# Altium schematic symbol library HW.SchLib: 328 symbols (part 9 of 10)
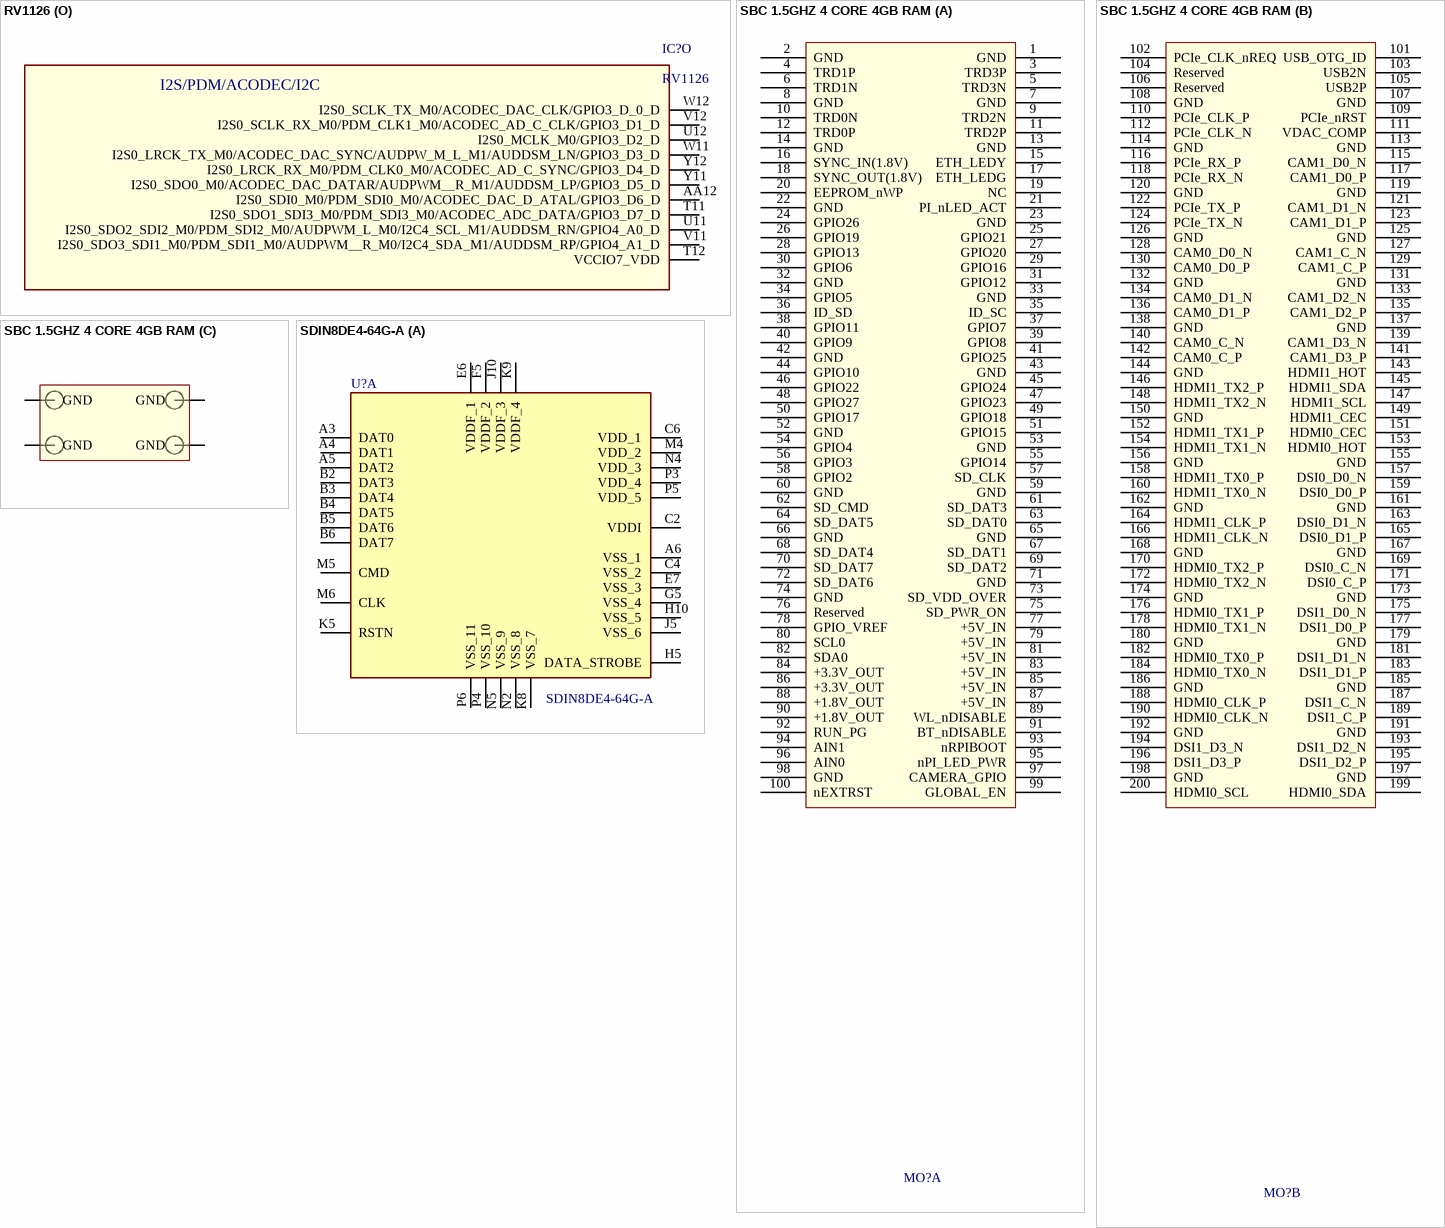
[diagram p31: symbols RV1126 to SDIN8DE4-64G-A]

## RV1126
designator IC?
Integrated Circuit; Manufacturer_Name: Rockchip; Datasheet Link: http://www.armdesigner.com/download/Rockchip%20RV1126%20Datasheet%20V1.2%2020200522.pdf; Height: 0.9mm; Manufacturer_Part_Number: RV1126
footprint BGA409C65P21X21_1400X1400X90
part A pins: H9 LOGIC_VDD_1, H11 NPU_VDD_1, H12 NPU_VDD_2, H13 LOGIC_VDD_2, H14 VCCIO_VDD_1V8, J9 LOGIC_VDD_3, J10 NPU_VDD_3, J11 NPU_VDD_4, J13 LOGIC_VDD_4, K10 NPU_VDD_5, K11 NPU_VDD_6, L9 VEPU_VDD_1, L10 LOGIC_VDD_5, M9 VEPU_VDD_2, M11 LOGIC_VDD_6, N8 VEPU_VDD_3, N9 VEPU_VDD_4, N12 ARM_VDD_1, P12 ARM_VDD_2, P13 ARM_VDD_3
part B pins: A1 VSS_1, A21 AVSS_1, AA1 VSS_95, AA10 VSS_96, AA21 VSS_97, B12 VSS_2, C3 VSS_3, C5 VSS_4, C7 VSS_5, C10 VSS_6, C12 VSS_7, D9 VSS_8, D12 VSS_9, D18 AVSS_2, E4 VSS_10, E6 VSS_11, E8 VSS_12, E9 VSS_13, E10 VSS_14, E11 VSS_15, E12 VSS_16, F3 VSS_17, F5 VSS_18, F7 VSS_19, F8 VSS_20, F9 VSS_21, F10 VSS_22, F11 VSS_23, F12 VSS_24, F13 VSS_25, F14 AVSS_3, F15 AVSS_4, G2 VSS_26, G5 VSS_27, G6 VSS_28, G10 VSS_29, G11 VSS_30, G12 VSS_31, G13 VSS_32, G16 AVSS_5, G17 AVSS_6, H4 VSS_33, H5 VSS_34, H6 VSS_35, H7 VSS_36, H10 VSS_37, H15 VSS_38, J5 VSS_39, J6 VSS_40, J12 VSS_41, J14 VSS_42, J16 VSS_43, K5 VSS_44, K6 VSS_45, K8 VSS_46, K9 VSS_47, K12 VSS_48, K13 VSS_49, K14 VSS_50, L2 VSS_51, L5 VSS_52, L6 VSS_53, L11 VSS_54, L12 VSS_55, L13 VSS_56, L14 VSS_57, L16 VSS_58, M3 VSS_59, M5 VSS_60, M7 VSS_61, M8 VSS_62, M10 VSS_63, M12 VSS_64, M13 VSS_65, M14 VSS_66, M16 VSS_67, N5 VSS_68, N6 VSS_69, N7 VSS_70, N10 VSS_71, N11 VSS_72, N13 VSS_73, N14 VSS_74, N16 VSS_75, P5 VSS_76, P7 VSS_77, P8 VSS_78, P9 VSS_79, P14 VSS_80, P16 VSS_81, R1 VSS_82, R5 VSS_83, R12 VSS_84, R13 VSS_85, R14 VSS_86, T6 VSS_87, T9 VSS_88, T10 VSS_89, T14 VSS_90, T17 VSS_91, V17 VSS_92, W9 VSS_93, W14 VSS_94
part C pins: AA2 SPI0_CS0N_M0/GPIO0_A5_U, AA3 CLKI_CLKO_32K/GPIO0_A2_Z, AA4 PMU_DEBUG/UART1_CTSN_M0/PWM3_IR_M0/GPIO0_C1_D, AA6 I2C2_SCL/PWM4_M0/GPIO0_C2_D, AA7 I2C0_SCL/GPIO0_B4_U, AA9 XIN24M, P10 PMUIO_VDD_0V8, P11 PLL_AVDD_0V8, R8 PMUIO1_VDD, R9 PMUIO0_VDD, R10 PMUIO_VDD_1V8, R11 PLL_AVDD_1V8, T8 TVSS, U7 SDMMC0_DET/GPIO0_A3_U, U9 SDMMC0_PWR_/UART1_RTSN_M0/PWM2_M0/GPIO0_C0_D, V6 SPI0_MOSI_M0/GPIO0_A6_D, V7 SPI0_CS1N_M0/GPIO0_A4_U, V9 UART1_RX_M0/PWM1_M0/GPIO0_B7_D, W5 SPI0_MISO_M0/GPIO0_A7_D, W6 CLK_REF/GPIO0_A0_D, W7 NPOR_U, W8 UART1_TX_M0/PWM0_M0/GPIO0_B6_D, W10 PMIC_IN/PWM7_IR_M0/GPIO0_B1_D, Y4 SPI0_CLK_M0/GPIO0_B0_D, Y5 TSADC_SHUT_M0/TSADC_SHUTORG/GPIO0_A1_Z, Y6 I2C2_SDA/PWM5_M0/GPIO0_C3_D, Y7 I2C0_SDA/GPIO0_B5_U, Y8 FLASH_VOL_SEL/GPIO0_B3_D, Y9 XOUT24M, Y10 PMIC_SLEEP/TSADC_SHUT_M1/PWM6_M0/GPIO_0_B2_D
part D pins: A2 DDR_DQ24, A3 DDR_DQ25, A4 DDR_ACTN, A5 DDR_ODT0, A6 DDR_BA1, A7 DDR_A5, A8 DDR_A8, A9 DDR_A4, A10 DDR_A10, A11 DDR4_A14_Wen , A12 DDR_A13, B1 DDR_DQ30, B2 DDR_DQ31, B3 DDR_DM3, B4 DDR_CS0N, B5 DDR4_A15_CASn , B6 DDR_A3, B7 DDR_A1, B8 DDR_A7, B9 DDR_A9, B10 DDR4_A16_RASn, B11 DDR_A2, C1 DDR_DQ14, C2 DDR_DQ15, C4 DDR_RESETN, C6 DDR_CKE, C8 DDR_A6, C9 DDR_A0, C11 DDR_A11, D1 DDR_DQ9, D2 DDR_DQ8, D3 DDR_DQS3P, D4 DDR_CLKP, D5 DDR_CLKN, D6 DDR_BG0, D7 DDR_A12, D8 DDR_CS1N, D10 DDR_ODT1, D11 DDR_BG1, E1 DDR_DQ13, E2 DDR_DM1, E3 DDR_DQS3N, E5 DDR_RZQ, E7 DDR_BA0, F1 DDR_DQS1N, F2 DDR_DQS1P, F4 DDR_DQ27, F6 DDR_AVSS, G1 DDR_DQ12, G3 DDR_DQ29, G4 DDR_DQ26, G7 DDR_VDD_1, G8 DDR_VDD_2, G9 DDR_VDD_3, H1 DDR_DQ11, H2 DDR_DQ10, H3 DDR_DQ28, H8 DDR_VDD_4, J1 DDR_DQ18, J2 DDR_DQ19, J3 DDR_DQ4, J4 DDR_DQ1, J7 DDR_VDD_5, K1 DDR_DQ16, K2 DDR_DQ17, K3 DDR_DQ5, K4 DDR_DQ0, K7 DDR_VDD_6, L1 DDR_DQ21, L3 DDR_DQS0N, L4 DDR_DQS0P, L7 DDR_VDD_7, M1 DDR_DQ22, M2 DDR_DM2, M4 DDR_DQ6, M6 DDR_VREF, N1 DDR_DQS2N, N2 DDR_DQS2P, N3 DDR_DM0, N4 DDR_DQ3, P1 DDR_DQ23, P2 DDR_DQ20, P3 DDR_DQ7, P4 DDR_DQ2
part E pins: P6 VCCIO1_VDD, R2 FLASH_RDYN/FSPI_D1/I2S1_SCLK_M0/GPIO1_A_1_U, R3 FLASH_WPN/EMMC_RSTN/FSPI_CLK/GPIO1_A3_D, R4 FLASH_RDN/FSPI_D3/I2S1_SDI_M0/GPIO1_A2_U, T1 FLASH_CLE/EMMC_CLKO/GPIO0_D7_D, T2 FLASH_ALE/FSPI_D0/I2S1_LRCK_M0/GPIO1_A0__D, T3 FSPI_D2/I2S1_SDO_M0/GPIO0_D6_D, T4 FLASH_WRN/EMMC_CMD/GPIO0_D5_U, U2 FLASH_CS0N/FSPI_CS0N/I2S1_MCLK_M0/GPIO0_D4_U, U3 FLASH_D7/EMMC_D7/GPIO0_D3_U, U4 FLASH_D6/EMMC_D6/GPIO0_D2_U, V1 FLASH_D5/EMMC_D5/FSPI_CS1N/GPIO0_D1_U, V2 FLASH_D4/EMMC_D4/GPIO0_D0_U, V3 FLASH_D3/EMMC_D3/GPIO0_C7_U, V4 FLASH_D2/EMMC_D2/GPIO0_C6_U, W1 FLASH_D1/EMMC_D1/GPIO0_C5_U, W2 FLASH_D0/EMMC_D0/GPIO0_C4_U
part F pins: AA13 SDMMC0_CLK/UART3_RTSN_M1/RISC-V_JTAG_TDO/GPIO1_B0_U, T13 VCCIO2_VDD, U13 SDMMC0_D3/UART3_TX_M1/A7_JTAG_TMS_M0/RISC-V_JTAG_TMS/GPIO1_A7_U, V13 SDMMC0_D2/UART3_RX_M1/A7_JTAG_TCK_M0/_RISC-V_JTAG_TCK/GPIO1_A6_U, W13 SDMMC0_D1/TEST_CLK0_OUT/UART2_TX_M0/RI_SC-V_JTAG_TRSTN/GPIO1_A5_U, Y13 SDMMC0_CMD/UART3_CTSN_M1/RISCV_JTAG_TDI/GPIO1_B1_U, Y14 SDMMC0_D0/TEST_CLK1_OUT/UART2_RX_M0/GPIO1_A4_U
part G pins: A13 SDIO_PWR/I2C5_SDA_M2/UART1_RX_M1/GPIO1_D1_D, A15 UART0_CTSN/GPIO1_C1_U, A16 SDIO_CMD/GPIO1_B3_U, B13 I2S2_MCLK_M0/SDIO_DET/SPI1_CS1N_M1/I2C5_SCL_M2/UART1_TX_M1/GPIO1_D0_D, B14 I2S2_SDO_M0/SPI1_MOSI_M1/FLASH_TRIG_OUT/GPIO1_C4_D, B15 UART0_RTSN/GPIO1_C0_U, B16 SDIO_D0/GPIO1_B4_U, C13 I2S2_LRCK_M0/SPI1_CS0N_M1/UART1_CTSN_M1/GPIO1_C7_D, C14 UART0_TX/GPIO1_C3_U, C15 SDIO_D3/GPIO1_B7_U, C16 SDIO_D1/GPIO1_B5_U, D13 I2S2_SCLK_M0/SPI1_CLK_M1/PRELIGHT_TRIG_OUT/UART1_RTSN_M1/_GPIO1_C6_D, D14 UART0_RX/GPIO1_C2_U, D15 SDIO_D2/GPIO1_B6_U, D16 SDIO_CLK/GPIO1_B2_D, E13 I2S2_SDI_M0/SPI1_MISO_M1/FLASH_TRIG_IN/GPIO1_C5_D, E14 VCCIO3_VDD
part H pins: R6 USB_AVDD_0V8, R7 USB_AVDD_1V8, T7 USB_AVDD_3V3, U5 HOST_EXTR, U6 OTG_EXTR, V5 OTG_VBUS1V8, W3 OTG_DP, W4 OTG_DM, Y1 HOST_DP, Y2 HOST_DM, Y3 OTG_ID
part I pins: A18 ADCIN3, B17 ADCIN5, B18 ADCIN2, C17 ADCIN4, D17 ADCIN1, E16 ADC_AVDD_1V8, E17 ADCIN0
part J pins: M15 VCCIO6_VDD, M17 CIF_D13_M0/RGMII_RXDV_M0/PDM_SDI0_M1/GPIO3_C1_D, M18 CIF_D14_M0/RGMII_RXER_M0/PDM_SDI1_M1/GPIO3_C2_D, M19 CIF_CLKIN_M0/CLK_OUT_ETHERNET_M0/UART3_CTSN_M0/GPIO3_C5_D, N17 CIF_D6_M0/RGMII_TXD3_M0/I2S0_LRCK_RX_M1/UART4_RTSN_M0/GPIO3_B2_D, N18 CIF_D9_M0/RGMII_TXEN_M0/I2S0_SDO3_SDI1_M1/SPI1_CS0N_M0/GPIO3_B5_D, N19 CIF_D12_M0/RGMII_CLK_M0/PDM_CLK0_M1/SPI1_CLK_M0/GPIO3_C0_D, N20 CIF_D15_M0/RGMII_MDIO_M0/PDM_CLK1_M1/GPIO3_C3_D, N21 CIF_VSYNC_M0/RGMII_MDC_M0/UART3_RTSN__M0/GPIO3_C4_D, P17 CIF_D2_M0/RGMII_COL_M0/I2S0_SDO0_M1/UART5_TX_M0/CAN_RXD_M1/PWM10_M0/GPIO3_A6_D, P19 CIF_CLKOUT_M0/RGMII_TXCLK_M0/UART3_TX_M0/GPIO3_C6_D, P20 CIF_HSYNC_M0/RGMII_RXCLK_M0/UART3_RX_M0/GPIO3_C7_D, R17 CIF_D0_M0/I2S0_SCLK_TX_M1/UART4_TX_M0/I2C3_SCL_M0/PWM8_M0/GPIO3_A4_D, R18 CIF_D3_M0/RGMII_RXD2_M0/I2S0_SDI0_M1/UART5_RX_M0/CAN_TXD_M1/PWM11_IR_M0/GPIO3_A7_D, R19 CIF_D7_M0/RGMII_TXD0_M0/I2S0_SDO1_SDI3_M1/UART4_CTSN_M0/GPIO3_B3_D, R20 CIF_D10_M0/RGMII_RXD0_M0/PDM_SDI2_M1/SPI1_MOSI_M0/GPIO3_B6_D, R21 CIF_D11_M0/RGMII_RXD1_M0/PDM_SDI3_M1/SPI1_MISO_M0/GPIO3_B7_D, T18 CIF_D1_M0/RGMII_CRS_M0/I2S0_LRCK_TX_M1/UART4_RX_M0/I2C3_SDA_M0/PWM9_M0/GPIO3_A5_D, T19 CIF_D4_M0/RGMII_RXD3_M0/I2S0_MCLK_M1/UART5_RTSN_M0/I2C5_SCL_M1/GPIO3_B0_D, T20 CIF_D5_M0/RGMII_TXD2_M0/I2S0_SCLK_RX_M1/UART5_CTSN_M0/I2C5_SDA_M1/GPIO3_B1_D, T21 CIF_D8_M0/RGMII_TXD1_M0/I2S0_SDO2_SDI2_M1/SPI1_CS1N_M0/GPIO3_B4_D
part K pins: AA15 MIPI_CSI_RX0_D3P/LVDS0_RX3P, AA16 MIPI_CSI_RX0_D3N/LVDS0_RX3N, AA18 MIPI_CSI_RX1_D2P/LVDS1_RX2P, AA19 MIPI_CSI_RX1_D1P/LVDS1_RX1P, AA20 MIPI_CSI_RX1_D0P/LVDS1_RX0P, R15 MIPI_CSI_RX1_AVDD_0V8, R16 MIPI_CSI_RX1_AVDD_1V8, T15 MIPI_CSI_RX0_AVDD_0V8, T16 MIPI_CSI_RX0_AVDD_1V8, U15 MIPI_CSI_RX0_CLKP/LVDS0_CLKP, U16 MIPI_CSI_RX0_D0N/LVDS0_RX0N, V15 MIPI_CSI_RX0_CLKN/LVDS0_CLKN, V16 MIPI_CSI_RX0_D0P/LVDS0_RX0P, V18 MIPI_CSI_RX1_CLKP/LVDS1_CLKP, W15 MIPI_CSI_RX0_D2P/LVDS0_RX2P, W16 MIPI_CSI_RX0_D1N/LVDS0_RX1N, W17 MIPI_CSI_RX1_D3N/LVDS1_RX3N, W18 MIPI_CSI_RX1_CLKN/LVDS1_CLKN, Y15 MIPI_CSI_RX0_D2N/LVDS0_RX2N, Y16 MIPI_CSI_RX0_D1P/LVDS0_RX1P, Y17 MIPI_CSI_RX1_D3P/LVDS1_RX3P, Y18 MIPI_CSI_RX1_D2N/LVDS1_RX2N, Y19 MIPI_CSI_RX1_D1N/LVDS1_RX1N, Y20 MIPI_CSI_RX1_D0N/LVDS1_RX0N
part L pins: P15 VCCIO4_VDD, U18 SPI0_MISO_M1/I2S1_LRCK_M1/I2C3_SDA_M2/GPIO1_D7_D, U19 SPI0_CS0N_M1/I2S1_SDI_M1/UART5_TX_M2/GPIO2_A0_D, U20 SPI0_CLK_M1/I2S1_SDO_M1/UART5_RX_M2/GPIO2_A1_D, V19 SPI0_MOSI_M1/I2S1_SCLK_M1/I2C3_SCL_M2/GPIO1_D6_D, V20 SPI0_CS1N_M1/I2S1_MCLK_M1/UART4_TX_M2/GPIO1_D5_D, V21 MIPI_CSI_CLK0/UART5_CTSN_M2/GPIO2_A3_D, W19 I2C1_SDA/UART4_RTSN_M2/GPIO1_D2_U, W20 UART4_RX_M2/GPIO1_D4_D, W21 MIPI_CSI_CLK1/UART5_RTSN_M2/GPIO2_A2_D, Y21 I2C1_SCL/UART4_CTSN_M2/GPIO1_D3_U
part M pins: C21 LCDC_VSYNC/UART3_RTSN_M2/PWM9_M1/SPI1_MOSI_M2/GPIO2_D6_D, D21 LCDC_CLK/UART3_CTSN_M2/PWM8_M1/SPI1_MISO_M2/GPIO2_D7_D, E19 CAN_TXD_M0/UART3_RX_M2/PWM11_IR_M1/I2C4_SDA_M0/GPIO3_A1_U, E20 CAN_RXD_M0/UART3_TX_M2/PWM7_IR_M1/SPI1_CS1N_M2/I2C4_SCL_M0/GPIO3_A0_U, F19 LCDC_D23/RGMII_RXCLK_M1/CIF_HSYNC_M1/I2S1_SDI_M2/GPIO2_D3_D, F20 LCDC_D22/RGMII_TXCLK_M1/CIF_CLKIN_M1/I2S1_LRCK_M2/GPIO2_D2_D, F21 LCDC_D21/RGMII_TXD2_M1/CIF_CLKOUT_M1/I2S1_SCLK_M2/GPIO2_D1_D, G18 UART2_TX_M1/A7_JTAG_TCK_M1/GPIO3_A2_U, G19 LCDC_D19/RGMII_RXD2_M1/CIF_D15_M1/I2S1_MCLK_M2/GPIO2_C7_D, G20 LCDC_D18/RGMII_TXEN_M1/CIF_D14_M1/GPIO2_C6_D, G21 LCDC_D17/CLK_OUT_ETHERNET_M1/CIF_D13_M1/GPIO2_C5_D, H16 UART2_RX_M1/A7_JTAG_TMS_M1/GPIO3_A3_U, H17 LCDC_HSYNC/PWM10_M1/_SPI1_CLK_M2_/I2C3_SDA_M1/GPIO2_D5_D, H18 LCDC_D20/RGMII_RXD3_M1/CIF_VSYNC_M1/I2S1_SDO_M2/GPIO2_D0_D, H19 LCDC_D16/RGMII_TXD1_M1/CIF_D12_M1/GPIO2_C4_D, H20 LCDC_D15/RGMII_TXD0_M1/CIF_D11_M1/GPIO2_C3_D, J15 VCCIO5_VDD_1, J17 LCDC_DEN/PWM6_M1/SPI1_CS0N_M2/I2C3_SCL_M1/GPIO2_D4_D, J18 LCDC_D0/RGMII_TXD3_M1/CIF_D0_M1/UART4_RTSN_M1/GPIO2_A4_D, J19 LCDC_D12/RGMII_RXER_M1/CIF_D8_M1/GPIO2_C0_D, J20 LCDC_D14/RGMII_MDC_M1/CIF_D10_M1/GPIO2_C2_D, J21 LCDC_D13/RGMII_MDIO_M1/CIF_D9_M1/GPIO2_C1_D, K15 VCCIO5_VDD_2, K16 LCDC_D6/I2S2_LRCK_M1/UART5_RTSN_M1/PWM1_M1/SPI0_CLK_M2/GPIO2_B2_D, K17 LCDC_D7/I2S2_MCLK_M1/CIF_D3_M1/UART5_CTSN_M1/SPI0_CS1N_M2/PWM0_M1/I2C5_SDA_M0/GPIO2_B3_D, K18 LCDC_D8/RGMII_RXDV_M1/CIF_D4_M1/GPIO2_B4_D, K19 LCDC_D9/RGMII_RXD0_M1/CIF_D5_M1/GPIO2_B5_D, K20 LCDC_D10/RGMII_RXD1_M1/CIF_D6_M1/GPIO2_B6_D, K21 LCDC_D11/RGMII_CLK_M1/CIF_D7_M1/GPIO2_B7_D, L17 LCDC_D1/RGMII_CRS_M1/CIF_D1_M1/UART4_CTSN_M1/I2C5_SCL_M0/GPIO2_A5_D, L19 LCDC_D4/I2S2_SDI_M1/UART5_TX_M1/PWM3_IR_M1/SPI0_MOSI_M2/GPIO2_B0_D, L20 LCDC_D5/I2S2_SCLK_M1/UART5_RX_M1/PWM2_M1/SPI0_MISO_M2/GPIO2_B1_D, M20 LCDC_D3/I2S2_SDO_M1/UART4_RX_M1/PWM4__M1/SPI0_CS0N_M2/GPIO2_A7_D, M21 LCDC_D2/RGMII_COL_M1/CIF_D2_M1/PWM5_M_1/_UART4_TX_M1/GPIO2_A6_D
part N pins: A19 MIPI_DSI_TX0_D0P, A20 MIPI_DSI_TX0_D1P, B19 MIPI_DSI_TX0_D0N, B20 MIPI_DSI_TX0_D1N, B21 MIPI_DSI_TX0_D2P, C18 MIPI_DSI_TX0_CLKN, C19 MIPI_DSI_TX0_CLKP, C20 MIPI_DSI_TX0_D2N, D19 MIPI_DSI_TX0_D3N, D20 MIPI_DSI_TX0_D3P, E18 MIPI_DSI_TX0_AVDD_0V8, G15 MIPI_DSI_TX0_AVDD_1V8
part O pins: AA12 I2S0_SDI0_M0/PDM_SDI0_M0/ACODEC_DAC_D_ATAL/GPIO3_D6_D, T11 I2S0_SDO1_SDI3_M0/PDM_SDI3_M0/ACODEC_ADC_DATA/GPIO3_D7_D, T12 VCCIO7_VDD, U11 I2S0_SDO2_SDI2_M0/PDM_SDI2_M0/AUDPWM_L_M0/I2C4_SCL_M1/AUDDSM_RN/GPIO4_A0_D, U12 I2S0_MCLK_M0/GPIO3_D2_D, V11 I2S0_SDO3_SDI1_M0/PDM_SDI1_M0/AUDPWM__R_M0/I2C4_SDA_M1/AUDDSM_RP/GPIO4_A1_D, V12 I2S0_SCLK_RX_M0/PDM_CLK1_M0/ACODEC_AD_C_CLK/GPIO3_D1_D, W11 I2S0_LRCK_TX_M0/ACODEC_DAC_SYNC/AUDPW_M_L_M1/AUDDSM_LN/GPIO3_D3_D, W12 I2S0_SCLK_TX_M0/ACODEC_DAC_CLK/GPIO3_D_0_D, Y11 I2S0_SDO0_M0/ACODEC_DAC_DATAR/AUDPWM__R_M1/AUDDSM_LP/GPIO3_D5_D, Y12 I2S0_LRCK_RX_M0/PDM_CLK0_M0/ACODEC_AD_C_SYNC/GPIO3_D4_D
part A text: NPU/LOGIC/VEPU/ARM Power; Supply for VCCIO1~7 Power
part C text: OSC/PLL; Digital Power of PMUIO0&PMUIO1; PMUIO0 Domain; PMUIO1 Domain
part D text: DDR
part E text: I2S1/FSPI/EMMC/FLASH
part F text: SDMMC0/UART/JTAG
part G text: SDMMC1/I2S2/SPI1/UART0/UART1/I2C5
part H text: USB2.0
part I text: SARADC
part J text: CIF/RGMII/I2S/PDM/UART/SPI/I2C
part K text: MIPI CSI RX1; MIPI CSI RX0
part L text: SPI/I2C/I2S/UART/MIPI CLK
part M text: LCDC/RGMII/CIF/UART/JTAG/I2S/SPI/I2C
part N text: MIPI DSI TX0
part O text: I2S/PDM/ACODEC/I2C

## SBC 1.5GHZ 4 CORE 4GB RAM
designator MO?, comment CM4-2  (value not drawn)
Compute 4 4GB Ram 32GB Emmc Wifi; Part Number: MO0013; ManfactPart: DF40HC(3.0)-100DS-0.4V; Manufacturer: Raspberry Pi; Manufacturer Part Number: SC0674; ID: 13; RefVal: CM4-2; Supplier 1: Mouser; RoHS: No; Category: Uncategorized; Stock 1: 629; Pricing 1: 1=70, 10=70, 50=70, 100=70, 1000=70, 10000=70 (USD); Supplier Part Number 1: 358-SC0674
footprint RPICM4_Layout
part A pins: 1 GND, 2 GND, 3 TRD3P, 4 TRD1P, 5 TRD3N, 6 TRD1N, 7 GND, 8 GND, 9 TRD2N, 10 TRD0N, 11 TRD2P, 12 TRD0P, 13 GND, 14 GND, 15 ETH_LEDY, 16 SYNC_IN(1.8V), 17 ETH_LEDG, 18 SYNC_OUT(1.8V), 19 NC, 20 EEPROM_nWP, 21 PI_nLED_ACT, 22 GND, 23 GND, 24 GPIO26, 25 GPIO21, 26 GPIO19, 27 GPIO20, 28 GPIO13, 29 GPIO16, 30 GPIO6, 31 GPIO12, 32 GND, 33 GND, 34 GPIO5, 35 ID_SC, 36 ID_SD, 37 GPIO7, 38 GPIO11, 39 GPIO8, 40 GPIO9, 41 GPIO25, 42 GND, 43 GND, 44 GPIO10, 45 GPIO24, 46 GPIO22, 47 GPIO23, 48 GPIO27, 49 GPIO18, 50 GPIO17, 51 GPIO15, 52 GND, 53 GND, 54 GPIO4, 55 GPIO14, 56 GPIO3, 57 SD_CLK, 58 GPIO2, 59 GND, 60 GND, 61 SD_DAT3, 62 SD_CMD, 63 SD_DAT0, 64 SD_DAT5, 65 GND, 66 GND, 67 SD_DAT1, 68 SD_DAT4, 69 SD_DAT2, 70 SD_DAT7, 71 GND, 72 SD_DAT6, 73 SD_VDD_OVER, 74 GND, 75 SD_PWR_ON, 76 Reserved, 77 +5V_IN, 78 GPIO_VREF, 79 +5V_IN, 80 SCL0, 81 +5V_IN, 82 SDA0, 83 +5V_IN, 84 +3.3V_OUT, 85 +5V_IN, 86 +3.3V_OUT, 87 +5V_IN, 88 +1.8V_OUT, 89 WL_nDISABLE, 90 +1.8V_OUT, 91 BT_nDISABLE, 92 RUN_PG, 93 nRPIBOOT, 94 AIN1, 95 nPI_LED_PWR, 96 AIN0, 97 CAMERA_GPIO, 98 GND, 99 GLOBAL_EN, 100 nEXTRST
part B pins: 101 USB_OTG_ID, 102 PCIe_CLK_nREQ, 103 USB2N, 104 Reserved, 105 USB2P, 106 Reserved, 107 GND, 108 GND, 109 PCIe_nRST, 110 PCIe_CLK_P, 111 VDAC_COMP, 112 PCIe_CLK_N, 113 GND, 114 GND, 115 CAM1_D0_N, 116 PCIe_RX_P, 117 CAM1_D0_P, 118 PCIe_RX_N, 119 GND, 120 GND, 121 CAM1_D1_N, 122 PCIe_TX_P, 123 CAM1_D1_P, 124 PCIe_TX_N, 125 GND, 126 GND, 127 CAM1_C_N, 128 CAM0_D0_N, 129 CAM1_C_P, 130 CAM0_D0_P, 131 GND, 132 GND, 133 CAM1_D2_N, 134 CAM0_D1_N, 135 CAM1_D2_P, 136 CAM0_D1_P, 137 GND, 138 GND, 139 CAM1_D3_N, 140 CAM0_C_N, 141 CAM1_D3_P, 142 CAM0_C_P, 143 HDMI1_HOT, 144 GND, 145 HDMI1_SDA, 146 HDMI1_TX2_P, 147 HDMI1_SCL, 148 HDMI1_TX2_N, 149 HDMI1_CEC, 150 GND, 151 HDMI0_CEC, 152 HDMI1_TX1_P, 153 HDMI0_HOT, 154 HDMI1_TX1_N, 155 GND, 156 GND, 157 DSI0_D0_N, 158 HDMI1_TX0_P, 159 DSI0_D0_P, 160 HDMI1_TX0_N, 161 GND, 162 GND, 163 DSI0_D1_N, 164 HDMI1_CLK_P, 165 DSI0_D1_P, 166 HDMI1_CLK_N, 167 GND, 168 GND, 169 DSI0_C_N, 170 HDMI0_TX2_P, 171 DSI0_C_P, 172 HDMI0_TX2_N, 173 GND, 174 GND, 175 DSI1_D0_N, 176 HDMI0_TX1_P, 177 DSI1_D0_P, 178 HDMI0_TX1_N, 179 GND, 180 GND, 181 DSI1_D1_N, 182 HDMI0_TX0_P, 183 DSI1_D1_P, 184 HDMI0_TX0_N, 185 GND, 186 GND, 187 DSI1_C_N, 188 HDMI0_CLK_P, 189 DSI1_C_P, 190 HDMI0_CLK_N, 191 GND, 192 GND, 193 DSI1_D2_N, 194 DSI1_D3_N, 195 DSI1_D2_P, 196 DSI1_D3_P, 197 GND, 198 GND, 199 HDMI0_SDA, 200 HDMI0_SCL
part C pins: GND, GND, GND, GND

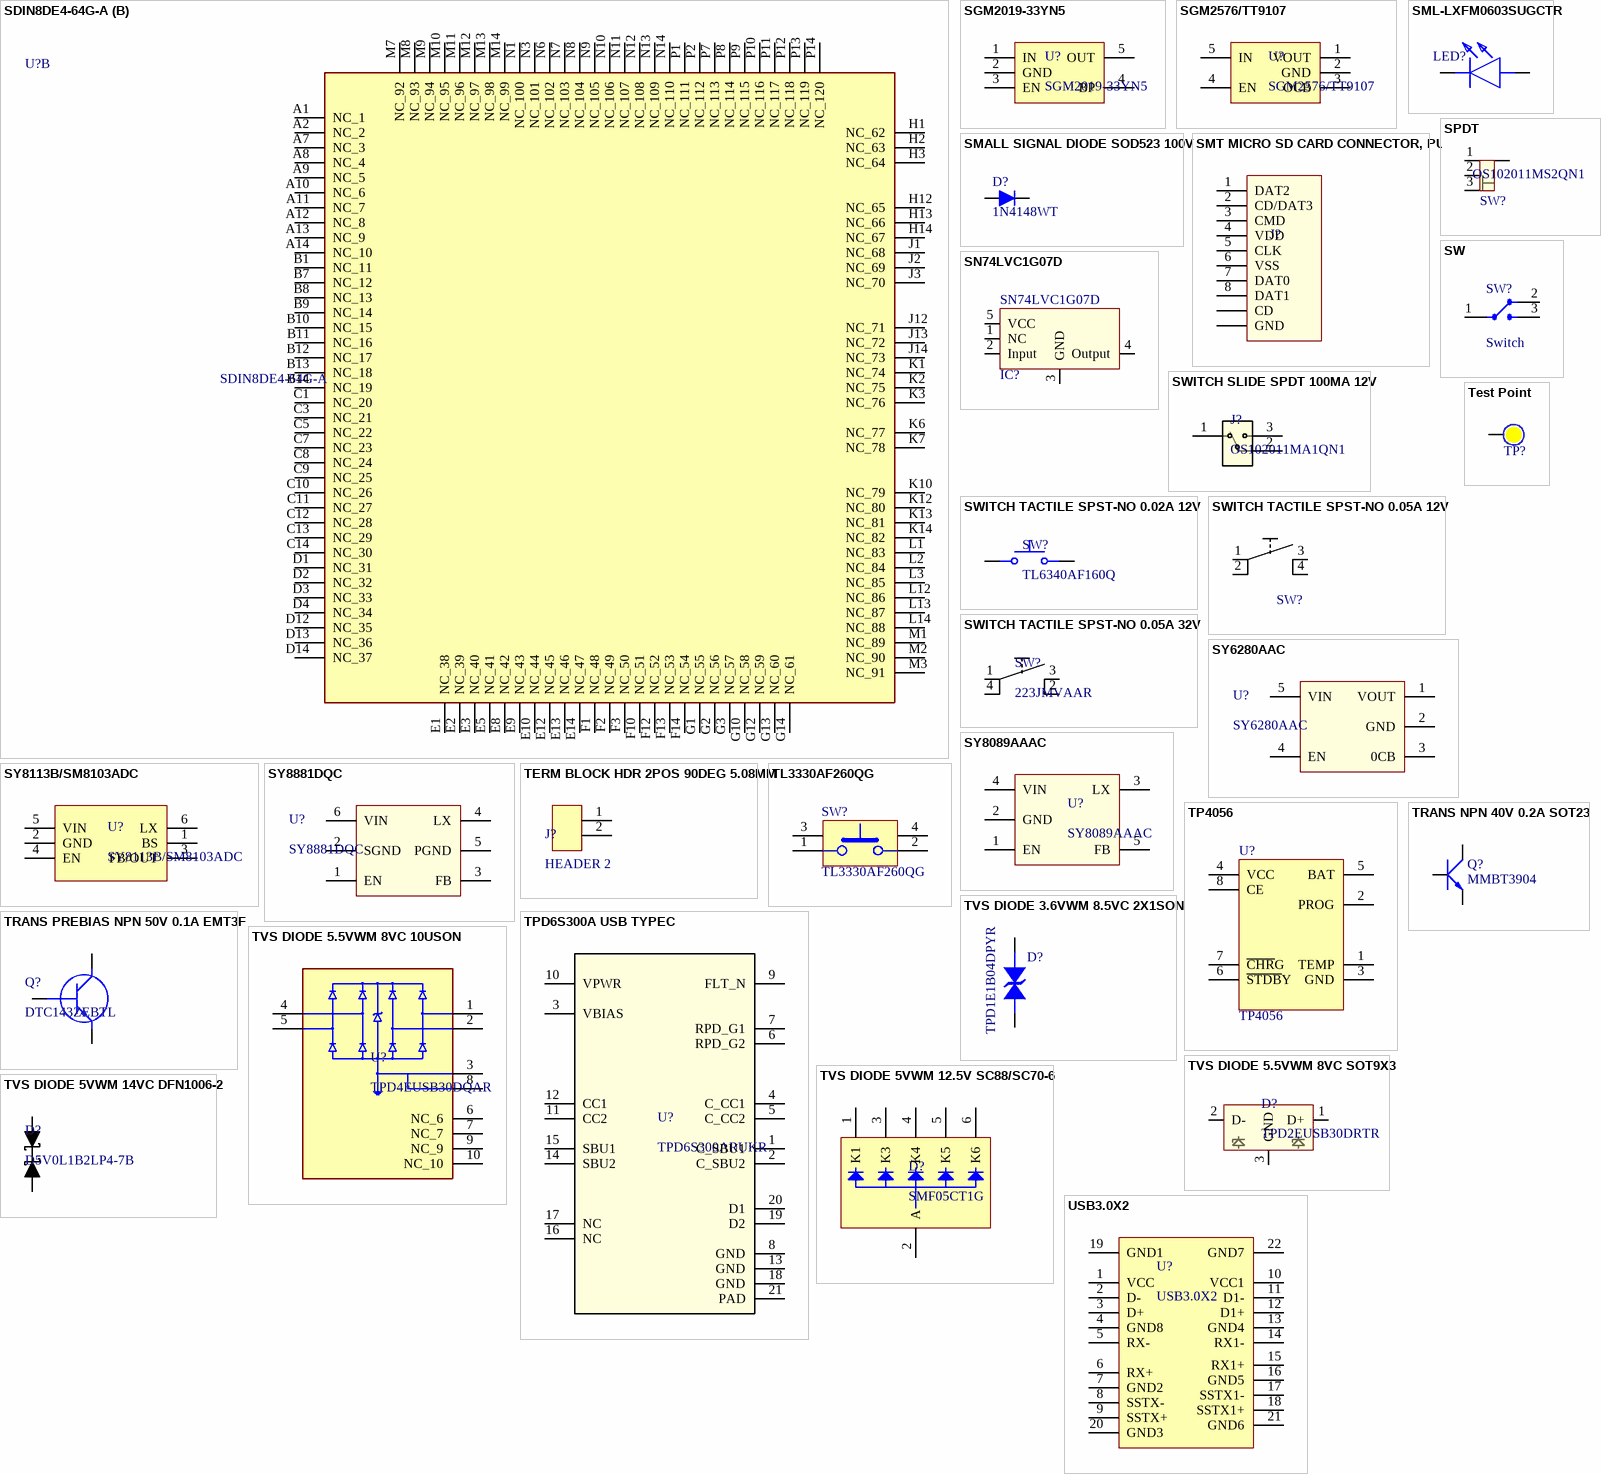
[diagram p20: symbols SDIN8DE4-64G-A to USB3.0X2]

## SDIN8DE4-64G-A
designator U?
eMMC 64GB 4.51 HS200 Auto eMMC WD/SD; ComponentLink1Description: https://datasheet.lcsc.com/lcsc/2007011825_Samsung-KLMAG1JETD-B041_C499919.pdf; ComponentLink1URL: https://datasheet.lcsc.com/lcsc/2007011825_Samsung-KLMAG1JETD-B041_C499919.pdf
footprint BGA153C50P14X14_1150X1300X80
part A pins: A3 DAT0, A4 DAT1, A5 DAT2, A6 VSS_1, B2 DAT3, B3 DAT4, B4 DAT5, B5 DAT6, B6 DAT7, C2 VDDI, C4 VSS_2, C6 VDD_1, E6 VDDF_1, E7 VSS_3, F5 VDDF_2, G5 VSS_4, H5 DATA_STROBE, H10 VSS_5, J5 VSS_6, J10 VDDF_3, K5 RSTN, K8 VSS_7, K9 VDDF_4, M4 VDD_2, M5 CMD, M6 CLK, N2 VSS_8, N4 VDD_3, N5 VSS_9, P3 VDD_4, P4 VSS_10, P5 VDD_5, P6 VSS_11
part B pins: A1 NC_1, A2 NC_2, A7 NC_3, A8 NC_4, A9 NC_5, A10 NC_6, A11 NC_7, A12 NC_8, A13 NC_9, A14 NC_10, B1 NC_11, B7 NC_12, B8 NC_13, B9 NC_14, B10 NC_15, B11 NC_16, B12 NC_17, B13 NC_18, B14 NC_19, C1 NC_20, C3 NC_21, C5 NC_22, C7 NC_23, C8 NC_24, C9 NC_25, C10 NC_26, C11 NC_27, C12 NC_28, C13 NC_29, C14 NC_30, D1 NC_31, D2 NC_32, D3 NC_33, D4 NC_34, D12 NC_35, D13 NC_36, D14 NC_37, E1 NC_38, E2 NC_39, E3 NC_40, E5 NC_41, E8 NC_42, E9 NC_43, E10 NC_44, E12 NC_45, E13 NC_46, E14 NC_47, F1 NC_48, F2 NC_49, F3 NC_50, F10 NC_51, F12 NC_52, F13 NC_53, F14 NC_54, G1 NC_55, G2 NC_56, G3 NC_57, G10 NC_58, G12 NC_59, G13 NC_60, G14 NC_61, H1 NC_62, H2 NC_63, H3 NC_64, H12 NC_65, H13 NC_66, H14 NC_67, J1 NC_68, J2 NC_69, J3 NC_70, J12 NC_71, J13 NC_72, J14 NC_73, K1 NC_74, K2 NC_75, K3 NC_76, K6 NC_77, K7 NC_78, K10 NC_79, K12 NC_80, K13 NC_81, K14 NC_82, L1 NC_83, L2 NC_84, L3 NC_85, L12 NC_86, L13 NC_87, L14 NC_88, M1 NC_89, M2 NC_90, M3 NC_91, M7 NC_92, M8 NC_93, M9 NC_94, M10 NC_95, M11 NC_96, M12 NC_97, M13 NC_98, M14 NC_99, N1 NC_100, N3 NC_101, N6 NC_102, N7 NC_103, N8 NC_104, N9 NC_105, N10 NC_106, N11 NC_107, N12 NC_108, N13 NC_109, N14 NC_110, P1 NC_111, P2 NC_112, P7 NC_113, P8 NC_114, P9 NC_115, P10 NC_116, P11 NC_117, P12 NC_118, P13 NC_119, P14 NC_120

## SGM2019-33YN5
designator U?
footprint SOT-23-5
pins: 1 IN, 2 GND, 3 EN, 4 BP, 5 OUT

## SGM2576/TT9107
designator U?
footprint SOT-23-5
pins: 1 VOUT, 2 GND, 3 OCB, 4 EN, 5 IN

## SMALL SIGNAL DIODE SOD523 100V
designator D?, comment 1N4148WT
Small Signal Diode, SOD-523, 100V, 0.125A, 4ns; Manufacturer: ON Semiconductor / Fairchild; Max Reverse Current: 5uA; Forward Current: 300mA; Max Repetitive Reverse Voltage (Vrrm): 75V; Average Rectified Current: 200mA; Max Forward Surge Current (Ifsm): 4A; Power Dissipation: 200mW; Element Configuration: Single; Supplier 1: Digikey; Manufacturer Part Number: 1N4148WT; RoHS: Yes; Category: Rectifier Diodes; Stock 1: 605460; Pricing 1: 1=0.17, 10=0.12, 100=0.065, 500=0.05104, 1000=0.03545, 2000=0.02937 (USD); Mount: Surface Mount; Number of Pins: 2; Weight: 0.01g; Contact Plating: Tin,Matte; Min Operating Temperature: -55°C; Max Operating Temperature: 150°C; Package Quantity: 1; Packaging: Tape and Reel; Recovery Time: 4ns; Reverse Recovery Time: 4ns; Series: -; Max Reverse Voltage (DC): 75V; Reverse Recovery Time-Max: 4ns; Length: 1.3mm; Width: 0.9mm; Height: 0.7mm; Radiation Hardening: No; Lead Free: Lead Free; RoHS Compliant: Yes; Reach SVHC Compliant: No; ComponentLink1URL: http://components.arrow.com/part/dataview/46667434S8439892N7769?src-supplier=Arrow+Electronics; ComponentLink1Description: http://components.arrow.com/part/dataview/46667434S8439892N7769?src-supplier=Arrow+Electronics; ComponentLink2URL: http://www.produktinfo.conrad.com/datenblaetter/1200000-1299999/001262771-da-01-en-DIODE_SWITCING_75_1N4148WT_SOD_523_F_FSC.pdf?src-supplier=Conrad; ComponentLink2Description: http://www.produktinfo.conrad.com/datenblaetter/1200000-1299999/001262771-da-01-en-DIODE_SWITCING_75_1N4148WT_SOD_523_F_FSC.pdf?src-supplier=Conrad; ComponentLink3URL: http://www.farnell.com/datasheets/2287915.pdf?src-supplier=Newark; ComponentLink3Description: http://www.farnell.com/datasheets/2287915.pdf?src-supplier=Newark; ComponentLink4URL: https://www.fairchildsemi.com/datasheets/1N/1N4448WT.pdf?src-supplier=Avnet; ComponentLink4Description: https://www.fairchildsemi.com/datasheets/1N/1N4448WT.pdf?src-supplier=Avnet; ComponentLink5URL: http://datasheet.octopart.com/1N4148WT-ON-Semiconductor-datasheet-8641207.pdf?src-supplier=Quest; ComponentLink5Description: http://datasheet.octopart.com/1N4148WT-ON-Semiconductor-datasheet-8641207.pdf?src-supplier=Quest; Supplier Part Number 1: 1N4148WTCT-ND
footprint CR_SOD-523F_ONS
pins: 1 A, 2 C

## SML-LXFM0603SUGCTR
designator LED?  (value not drawn)
Green LED Indication - Discrete 2.2V 0603 (1608 Metric); Manufacturer_Name: Lumex; Manufacturer_Part_Number: SML-LXFM0603SUGCTR; Datasheet Link: https://datasheet.datasheetarchive.com/originals/distributors/Datasheets-27/DSA-531025.pdf; Height: 1.1mm; Mouser Part Number: 696-SMLFM0603SUGCTR; Mouser Price/Stock: https://www.mouser.co.uk/ProductDetail/Lumex/SML-LXFM0603SUGCTR?qs=%2FTZnGAuuczb%2FM3Ej5pl3aA%3D%3D; Arrow Part Number: SML-LXFM0603SUGCTR; Arrow Price/Stock: https://www.arrow.com/en/products/sml-lxfm0603sugctr/lumex
footprint LEDC1608X45 G
pins: 1 K, 2 A

## SMT MICRO SD CARD CONNECTOR, PUS
designator J?, comment µSD-Card  (value not drawn)
Micro Sd Card, Push-Push, 8Pos, Smt Rohs Compliant: Yes |Wurth Elektronik 693071030811; Manufacturer: Wurth Electronics; Supplier 1: Digikey; Manufacturer Part Number: 693071030811; RoHS: No; Category: Uncategorized; Stock 1: 2452; Pricing 1: 1=4.01, 25=3.55, 100=3.28, 250=3.01 (USD); Mount: Surface Mount; Contact Plating: Gold; Series: WR-CRD; ComponentLink1URL: https://www.we-online.com/catalog/datasheet/693071030811.pdf?src-supplier=Digikey; ComponentLink1Description: https://www.we-online.com/catalog/datasheet/693071030811.pdf?src-supplier=Digikey; Supplier Part Number 1: 732-693071030811CT-ND
footprint 693071030811
pins: 1 DAT2, 2 CD/DAT3, 3 CMD, 4 VDD, 5 CLK, 6 VSS, 7 DAT0, 8 DAT1, CD, GND

## SN74LVC1G07D
designator IC?
Buffer IC; Part Number: IC0009; ManfactPart: SN74LVC1G07DBVT; ID: 9; RefVal: SN74LVC1G07D
footprint SOT-23-5
pins: 1 NC, 2 Input, 3 GND (power), 4 Output, 5 VCC (power)

## SPDT
designator SW?, comment OS102011MS2QN1
Miniature Slide Switch SPDT; Part Number: SW0001; ID: 1; ManfactPart: OS102011MS2QN1; RefVal: OS102011
footprint OS10_Series
pins: 1, 2, 3, GND

## SW
designator SW?, comment Switch
Switch 3x2; Value: Switch 4x2
footprint SW3X2 (Switch 3x2 - pin to pin 80)
pins: 1 Com, 2 I/O1, 3 I/O2

## SWITCH SLIDE SPDT 100MA 12V
designator J?, comment OS102011MA1QN1
Switch Slide ON ON SPDT Side Slide 0.1A 12VDC 10000Cycle PC Pins Thru-Hole Bulk; Manufacturer: ITT C&K; Number of Positions: 2NUMBER; Supplier 1: Arrow Electronics; Manufacturer Part Number: OS102011MA1QN1; RoHS: Yes; Category: Slide Switches; Stock 1: 27309; Pricing 1: 1=0.274, 10=0.2609, 100=0.2351, 600=0.2274, 1200=0.2216, 2700=0.2112, 10200=0.2105, 25200=0.2101 (USD); ComponentLink1URL: https://datasheet.ciiva.com/16287/os102011ma1qn1-16287415.pdf?src-supplier=Future+Electronics; ComponentLink1Description: https://datasheet.ciiva.com/16287/os102011ma1qn1-16287415.pdf?src-supplier=Future+Electronics; ComponentLink2URL: https://datasheet.ciiva.com/19453/588220-19453346.pdf?src-supplier=Jameco; ComponentLink2Description: https://datasheet.ciiva.com/19453/588220-19453346.pdf?src-supplier=Jameco; ComponentLink3URL: https://datasheet.ciiva.com/1699/19448-1699662.pdf?src-supplier=Newark; ComponentLink3Description: https://datasheet.ciiva.com/1699/19448-1699662.pdf?src-supplier=Newark; ComponentLink4URL: https://datasheet.ciiva.com/1532/1683358-1532307.pdf?src-supplier=Element14; ComponentLink4Description: https://datasheet.ciiva.com/1532/1683358-1532307.pdf?src-supplier=Element14; ComponentLink5URL: https://datasheet.ciiva.com/30466/0900766b81263f61-30466802.pdf?src-supplier=Rs; ComponentLink5Description: https://datasheet.ciiva.com/30466/0900766b81263f61-30466802.pdf?src-supplier=Rs; ComponentLink6URL: https://datasheet.ciiva.com/2889/os-19jan15-2889161.pdf?src-supplier=Digikey; ComponentLink6Description: https://datasheet.ciiva.com/2889/os-19jan15-2889161.pdf?src-supplier=Digikey; ComponentLink7URL: https://datasheet.ciiva.com/26290/os-11mar13-26290651.pdf?src-supplier=Onlinecomponents.com; ComponentLink7Description: https://datasheet.ciiva.com/26290/os-11mar13-26290651.pdf?src-supplier=Onlinecomponents.com; ComponentLink8URL: https://datasheet.ciiva.com/16860/70128245-16860059.pdf?src-supplier=Allied+Electronics; ComponentLink8Description: https://datasheet.ciiva.com/16860/70128245-16860059.pdf?src-supplier=Allied+Electronics; Supplier Part Number 1: OS102011MA1QN1
footprint OS102011MA1QN1_CNK
pins: 1, 2, 3

## SWITCH TACTILE SPST-NO 0.02A 12V
designator SW?, comment TL6340AF160Q
TACTILE SWITCH, SPST, 0.02A/12VDC, SMD; Product Range: TL6340 Series; Actuator Orientation: Side Actuated; Switch...; Manufacturer: E-Switch; Supplier 1: Digikey; Manufacturer Part Number: TL6340AF160Q; RoHS: Yes; Category: Tactile Switches; Stock 1: 7475; Pricing 1: 1=0.51, 10=0.496, 25=0.478, 100=0.4136, 250=0.37684, 500=0.34926, 1000=0.31249 (USD); Supplier Part Number 1: 141-TL6340AF160QCT-ND
footprint SW_TL6340AF160Q
pins: 1, 2

## SWITCH TACTILE SPST-NO 0.05A 12V
designator SW?, comment PTS645VK83-2 LFS  (value not drawn)
Tactile Switch SPST-NO Side Actuated Through Hole, Right Angle; Part Number: SW0003; ManfactPart: PTS645VK832LFS; ID: 3; RefVal: PTS645
footprint PTS645-V
pins: 1, 2, 3, 4

## SWITCH TACTILE SPST-NO 0.05A 32V
designator SW?, comment 223JMVAAR
Switch Tactile Non-Illuminated N.O. SPST Button Gull Wing 50mA 32VDC SMD T/R; Manufacturer: CTS; Manufacturer Part Number: 223JMVAARG; Mechanical Life: 150000Cycles; Switch Function: Off-Mom; Operating Force: 300gf; Switch Travel: 0.25mm; Ratings: IP67,Waterproof,Dust Tight; Supplier 1: Digikey; RoHS: Yes; Category: Tactile Switches; Pricing 1: 14000=0.24305 (USD); Mount: Surface Mount; Min Operating Temperature: -40°C; Max Operating Temperature: 85°C; Throw Configuration: SPST; Illumination Type: Non-Illuminated; Packaging: Tape and Reel; Termination: Gull Wing; ComponentLink1URL: https://www.ctscorp.com/wp-content/uploads/223J.pdf?src-supplier=Digikey; ComponentLink1Description: https://www.ctscorp.com/wp-content/uploads/223J.pdf?src-supplier=Digikey; Supplier Part Number 1: 223JMVAARG-ND
footprint 223JMVAAR
pins: 1, 2, 3, 4

## SY6280AAC
designator U?
Low Loss Power Distribution Switch TARGET DESIGN SPECIFICATION
footprint SOT-23-5
pins: 1 VOUT, 2 GND, 3 0CB, 4 EN, 5 VIN

## SY8089AAAC
designator U?
footprint SOT-23-5
pins: 1 EN, 2 GND, 3 LX, 4 VIN, 5 FB

## SY8113B/SM8103ADC
designator U?
footprint SOT-23-6
pins: 1 BS, 2 GND, 3 FB/OUT, 4 EN, 5 VIN, 6 LX

## SY8881DQC
designator U?
footprint SON50P150X150X60-6N
pins: 1 EN, 2 SGND, 3 FB, 4 LX, 5 PGND, 6 VIN

## TERM BLOCK HDR 2POS 90DEG 5.08MM
designator J?, comment HEADER 2
Terminal Header; 12 A; 250 V; 5.08 mm; 2; Solder Mount; 1.4 mm; 4 kV; 320 V; Manufacturer: Phoenix Contact; Manufacturer Part Number: 1757242; Max Current Rating: 12A; Number of Poles: 2; Voltage Rating: 250V; Number of Levels: 1; Current: 15A; Voltage: 300V; Connector Type: Plug; Voltage Rating (DC): 320V; Pitch: 5.08mm; Approvals: UL,CSA,VDE,EN; Supplier 1: Arrow Electronics; RoHS: Yes; Category: Terminal Blocks; Stock 1: 123; Pricing 1: 1=0.5766, 10=0.5389, 50=0.5015, 100=0.4731, 250=0.4549, 500=0.4281 (USD); Mount: Through Hole; Contact Plating: Tin; Color: Green,Grey; Weight: 5.396916oz; Housing Color: Green; Housing Material: Polyamide; Contact Material: Tin; Number of Rows: 1; Current Rating: 12A; Package Quantity: 50; Packaging: Bulk; Number of Positions: 2; Termination: Solder; Number of Positions Per Level: 2; Number of Contacts: 2; Orientation: Right Angle; Series: MSTBA; Length: 12.16mm; Width: 12.1mm; Height: 12.08mm; Thickness: 5.08mm; Depth: 12mm; Reach SVHC Compliant: No; Flammability Rating: UL94 V-0; RoHS Compliant: Yes; ComponentLink1URL: https://datasheet.ciiva.com/16096/1757242-16096402.pdf?src-supplier=Onlinecomponents.com; ComponentLink1Description: https://datasheet.ciiva.com/16096/1757242-16096402.pdf?src-supplier=Onlinecomponents.com; ComponentLink2URL: https://datasheet.ciiva.com/15197/getdatasheetpartid-176350-15197328.pdf?src-supplier=Verical; ComponentLink2Description: https://datasheet.ciiva.com/15197/getdatasheetpartid-176350-15197328.pdf?src-supplier=Verical; ComponentLink3URL: https://datasheet.ciiva.com/795/1757242-795407.pdf?src-supplier=Digikey; ComponentLink3Description: https://datasheet.ciiva.com/795/1757242-795407.pdf?src-supplier=Digikey; ComponentLink4URL: https://datasheet.ciiva.com/29210/569017-da-01-en-grundgehaeuse-1757242-250-st-29210285.pdf?src-supplier=Conrad; ComponentLink4Description: https://datasheet.ciiva.com/29210/569017-da-01-en-grundgehaeuse-1757242-250-st-29210285.pdf?src-supplier=Conrad; ComponentLink5URL: https://datasheet.ciiva.com/7630/100955-7630839.pdf?src-supplier=Element14; ComponentLink5Description: https://datasheet.ciiva.com/7630/100955-7630839.pdf?src-supplier=Element14; ComponentLink6URL: https://datasheet.ciiva.com/33105/1757242-33105868.pdf?src-supplier=Today+Components; ComponentLink6Description: https://datasheet.ciiva.com/33105/1757242-33105868.pdf?src-supplier=Today+Components; Supplier Part Number 1: 1757242
footprint BIG_Header 2
pins: 1, 2

## Test Point
designator TP?  (no BOM)
Test Point; Solder: NF
footprint Test Point 1 MM
pins: 0

## TL3330AF260QG
designator SW?
Switch Tactile N.O. SPST Rectangular Button Gull Wing 0.05A 12VDC 2.55N SMD; Manufacturer: E-Switch; Contact Current Rating: 50mA; Number of Positions: 2NUMBER; Supplier 1: Digikey; Manufacturer Part Number: TL3330AF260QG; RoHS: Yes; Category: Tactile Switches; Stock 1: 112482; Pricing 1: 1=0.51, 10=0.488, 25=0.47, 100=0.4068, 250=0.3706, 500=0.3435, 1000=0.30734 (USD); Height: 3.75mm; ComponentLink1URL: https://datasheet.ciiva.com/2900/p010951-2900788.pdf?src-supplier=Digikey; ComponentLink1Description: https://datasheet.ciiva.com/2900/p010951-2900788.pdf?src-supplier=Digikey; ComponentLink2URL: https://datasheet.ciiva.com/5284/tl3330-28043-5284129.pdf?src-supplier=Mouser; ComponentLink2Description: https://datasheet.ciiva.com/5284/tl3330-28043-5284129.pdf?src-supplier=Mouser; ComponentLink3URL: https://datasheet.ciiva.com/2900/tl3330-2900789.pdf?src-supplier=Digikey; ComponentLink3Description: https://datasheet.ciiva.com/2900/tl3330-2900789.pdf?src-supplier=Digikey; ComponentLink4URL: https://datasheet.ciiva.com/2900/tl3330-2900790.pdf?src-supplier=Digikey; ComponentLink4Description: https://datasheet.ciiva.com/2900/tl3330-2900790.pdf?src-supplier=Digikey; Supplier Part Number 1: EG4389CT-ND
footprint SW_TL3330_EWI
pins: 1, 2, 3 MECH1, 4 MECH2

## TP4056
designator U?
Charger IC Lithium Ion/Polymer
pins: 1 TEMP, 2 PROG, 3 GND, 4 VCC, 5 BAT, 6 ~{STDB}Y, 7 ~{CHR}G, 8 CE

## TPD6S300A USB TYPEC
designator U?, comment TPD6S300ARUKR
USB Type-C Port Protector 4-Channel 2.7V to 4.5V 20-Pin WQFN T/R; Manufacturer: Texas Instruments; Supplier 1: Mouser; Manufacturer Part Number: TPD6S300ARUKR; RoHS: Yes; Category: Integrated Circuits (ICs); Stock 1: 68218; Pricing 1: 1=1.22, 10=0.994, 50=0.994, 100=0.773, 1000=0.534, 10000=0.443 (USD); ComponentLink1URL: http://www.ti.com/general/docs/suppproductinfo.tsp?distId=10&amp;gotoUrl=http%3A%2F%2Fwww.ti.com%2Flit%2Fgpn%2Ftpd6s300&src-supplier=Digikey; ComponentLink1Description: http://www.ti.com/general/docs/suppproductinfo.tsp?distId=10&amp;gotoUrl=http%3A%2F%2Fwww.ti.com%2Flit%2Fgpn%2Ftpd6s300&src-supplier=Digikey; ComponentLink2URL: http://www.ti.com/lit/ds/symlink/tpd6s300.pdf?src-supplier=Digikey; ComponentLink2Description: http://www.ti.com/lit/ds/symlink/tpd6s300.pdf?src-supplier=Digikey; Supplier Part Number 1: 595-TPD6S300ARUKR
footprint RUK0020B
pins: 1 C_SBU1, 2 C_SBU2, 3 VBIAS, 4 C_CC1, 5 C_CC2, 6 RPD_G2, 7 RPD_G1, 8 GND, 9 FLT_N, 10 VPWR, 11 CC2, 12 CC1, 13 GND, 14 SBU2, 15 SBU1, 16 NC, 17 NC, 18 GND, 19 D2, 20 D1, 21 PAD

## TRANS NPN 40V 0.2A SOT23
designator Q?, comment MMBT3904
Bipolar (BJT) Transistor NPN 40 V 200 mA 300MHz 350 mW Surface Mount SOT-23; Manufacturer: MCC; Manufacturer Part Number: 2SD882-GR-BP; Max Collector Current: 3A; Collector Emitter Breakdown Voltage: 30V; Collector-emitter Voltage-Max: 500mV; Max Power Dissipation: 1.25W; Transition Frequency: 50MHz; Supplier 1: Digi-Key; Stock 1: 0; Mount: Through Hole; Case/Package: TO-126-3; Min Operating Temperature: -55°C; Max Operating Temperature: 150°C; Series: -; Packaging: Bulk; ComponentLink1URL: https://media.digikey.com/pdf/Data%20Sheets/Micro%20Commercial%20PDFs/2SD882-x.pdf?src-supplier=Digi-Key; ComponentLink1Description: https://media.digikey.com/pdf/Data%20Sheets/Micro%20Commercial%20PDFs/2SD882-x.pdf?src-supplier=Digi-Key; Supplier Part Number 1: 2SD882-GR-BP-ND
footprint SOT 23
pins: 1 B, 2 E, 3 C

## TRANS PREBIAS NPN 50V 0.1A EMT3F
designator Q?, comment DTC143ZEBTL
Transistor BJT NPN; Manufacturer_Name: ROHM Semiconductor; Datasheet Link: https://datasheet.datasheetarchive.com/originals/distributors/Datasheets_SAMA/65f79013acac3be2ce67f49282ff3c06.pdf; Height: 0.85mm; Manufacturer_Part_Number: DTC143ZEBTL; Mouser Part Number: 755-DTC143ZEBTL; Mouser Price/Stock: https://www.mouser.co.uk/ProductDetail/ROHM-Semiconductor/DTC143ZEBTL?qs=IsRgwgmxh6%252Bn%252Bp0edl8N%2Fw%3D%3D; Arrow Part Number: DTC143ZEBTL; Arrow Price/Stock: https://www.arrow.com/en/products/dtc143zebtl/rohm-semiconductor
footprint SOTFL50P160X85-3N
pins: 1 B, 2 E, 3 C

## TVS DIODE 3.6VWM 8.5VC 2X1SON
designator D?, comment TPD1E1B04DPYR
1-pF, ±3.6-V, ±30-kV ESD protection diode with 6-A 8/20-uS surge & Low Clamping in 0402 package; Manufacturer: Texas Instruments; Capacitance: 1pF; Interface: LVDS,USB,Ethernet; Number of Channels: 1; Direction: 211Direction; Breakdown Voltage: 6.4V; Clamping Voltage: 8.5V; Peak Pulse Current: 6.3A; Peak Pulse Power: 50W; Reverse Standoff Voltage: 3.6V; Supplier 1: Mouser; Manufacturer Part Number: TPD1E1B04DPYR; RoHS: Yes; Category: Integrated Circuits (ICs); Stock 1: 57724; Pricing 1: 1=0.35, 10=0.28, 50=0.28, 100=0.184, 500=0.144, 1000=0.102, 2500=0.098, 10000=0.085, 20000=0.084, 50000=0.079 (USD); Number of Pins: 2NUMBER; Min Operating Temperature: -40°C; Max Operating Temperature: 125°C; Length: 600um; Width: 1mm; Height: 450um; Thickness: 370um; Lead Free: Lead Free; RoHS Compliant: Yes; ComponentLink1URL: http://www.ti.com/lit/ds/symlink/tpd1e1b04.pdf?src-supplier=Digi-Key; ComponentLink1Description: http://www.ti.com/lit/ds/symlink/tpd1e1b04.pdf?src-supplier=Digi-Key; ComponentLink2URL: http://www.ti.com/general/docs/suppproductinfo.tsp?distId=10&amp;gotoUrl=http%3A%2F%2Fwww.ti.com%2Flit%2Fgpn%2Ftpd1e1b04&src-supplier=Digi-Key; ComponentLink2Description: http://www.ti.com/general/docs/suppproductinfo.tsp?distId=10&amp;gotoUrl=http%3A%2F%2Fwww.ti.com%2Flit%2Fgpn%2Ftpd1e1b04&src-supplier=Digi-Key; Supplier Part Number 1: 595-TPD1E1B04DPYR
footprint DIO_TPD1E05U06DPYR
pins: 1, 2

## TVS DIODE 5.5VWM 8VC 10USON
designator U?, comment TPD4EUSB30DQAR
4-channel ESD solution for SuperSpeed (6 Gbps) USB 3.0 interface 10-USON -40 to 85; Value: *; Package: None; MP: TPD4EUSB30DQAR; Price: None; Availability: Unavailable
footprint IC_TPD4EUSB30DQAR
pins: 1 D1+, 2 D1-, 3 GND_3 (power), 4 D2+, 5 D2-, 6 NC_6, 7 NC_7, 8 GND_8 (power), 9 NC_9, 10 NC_10

## TVS DIODE 5.5VWM 8VC SOT9X3
designator D?, comment TPD2EUSB30DRTR
Dual 0.7-pF, 5.5-V ±8-kV ESD protection diode with 5-A surge rating for USB 3.0 3-SOT-9X3 -40 to 85; Manufacturer: Texas Instruments; Supplier 1: Mouser; Manufacturer Part Number: TPD2EUSB30DRTR; RoHS: Yes; Category: Integrated Circuits (ICs); Stock 1: 147785; Pricing 1: 1=0.52, 10=0.453, 50=0.453, 100=0.315, 500=0.246, 1000=0.199, 3000=0.178, 9000=0.157, 10000=0.157, 24000=0.153, 45000=0.151 (USD); Thickness: 450um; Lead Free: 5697LeadFree; ComponentLink1URL: https://datasheet.ciiva.com/1611/tpd2eusb30-1611602.pdf?src-supplier=Newark; ComponentLink1Description: https://datasheet.ciiva.com/1611/tpd2eusb30-1611602.pdf?src-supplier=Newark; ComponentLink2URL: https://datasheet.ciiva.com/15134/getdatasheetpartid-202713-15134479.pdf?src-supplier=Verical; ComponentLink2Description: https://datasheet.ciiva.com/15134/getdatasheetpartid-202713-15134479.pdf?src-supplier=Verical; ComponentLink3URL: https://datasheet.ciiva.com/353/tpd2eusb30-353272.pdf?src-supplier=Digikey; ComponentLink3Description: https://datasheet.ciiva.com/353/tpd2eusb30-353272.pdf?src-supplier=Digikey; ComponentLink4URL: https://datasheet.ciiva.com/353/tpd2eusb30-353273.pdf?src-supplier=Digikey; ComponentLink4Description: https://datasheet.ciiva.com/353/tpd2eusb30-353273.pdf?src-supplier=Digikey; ComponentLink5URL: https://datasheet.ciiva.com/353/tpd2eusb30-353274.pdf?src-supplier=Digikey; ComponentLink5Description: https://datasheet.ciiva.com/353/tpd2eusb30-353274.pdf?src-supplier=Digikey; ComponentLink6URL: https://datasheet.ciiva.com/1504/1882087-1504248.pdf?src-supplier=Element14; ComponentLink6Description: https://datasheet.ciiva.com/1504/1882087-1504248.pdf?src-supplier=Element14; Supplier Part Number 1: 595-TPD2EUSB30DRTR
footprint SOT-3
pins: 1 D+, 2 D-, 3 GND (power)

## TVS DIODE 5VWM 12.5V SC88/SC70-6
designator D?, comment SMF05CT1G
TVS DIODE 5VWM 12.5VC SC88 / ESD Suppressor Diode TVS Uni-Dir 5V 6-Pin SC-88 T/R; Manufacturer: ON Semiconductor; Breakdown Voltage: 6.2V; Max Surge Current: 8A; Number of Elements: 5; Direction: Unidirectional; Clamping Voltage: 12.5V; Peak Pulse Power: 100W; Power Line Protection: No; Leakage Current: 5uA; ESD Protection: Yes; Test Current: 1mA; Max Breakdown Voltage: 7.2V; Diode Type: ZENER; Supplier 1: Avnet; Manufacturer Part Number: SMF05CT1G; RoHS: Yes; Category: ESD and Circuit Protection ICs; Stock 1: 6000; Pricing 1: 3000=0.08184, 6000=0.07963, 12000=0.07742, 18000=0.07521, 24000=0.073, 30000=0.07078, 300000=0.06857 (USD); Case/Package: SC; Number of Pins: 6; Min Operating Temperature: -40°C; Max Operating Temperature: 125°C; Packaging: Tape and Reel; Voltage Rating (DC): 5V; Reverse Breakdown Voltage: 6.2V; Number of Unidirectional Channels: 5; Reverse Standoff Voltage: 5V; Min Breakdown Voltage: 6.2V; Polarity: Unidirectional; Number of Channels: 5; Termination: SMD/SMT; Max Power Dissipation: 100W; Working Voltage: 5V; Max Reverse Leakage Current: 5uA; Peak Pulse Current: 8A; Series: -; Length: 2mm; Width: 1.25mm; Height: 1mm; Depth: 1.25mm; Radiation Hardening: No; Lead Free: Lead Free; Reach SVHC Compliant: No; RoHS Compliant: Yes; ComponentLink1URL: https://datasheet.ciiva.com/15143/getdatasheetpartid-98371-15143455.pdf?src-supplier=Verical; ComponentLink1Description: https://datasheet.ciiva.com/15143/getdatasheetpartid-98371-15143455.pdf?src-supplier=Verical; ComponentLink2URL: https://datasheet.ciiva.com/1181/smf05c-d-1181665.pdf?src-supplier=Element14; ComponentLink2Description: https://datasheet.ciiva.com/1181/smf05c-d-1181665.pdf?src-supplier=Element14; ComponentLink3URL: https://datasheet.ciiva.com/4511/smf05c-d-4511739.pdf?src-supplier=Mouser; ComponentLink3Description: https://datasheet.ciiva.com/4511/smf05c-d-4511739.pdf?src-supplier=Mouser; ComponentLink4URL: https://datasheet.ciiva.com/11193/smf05c-d-11193390.pdf?src-supplier=Avnet; ComponentLink4Description: https://datasheet.ciiva.com/11193/smf05c-d-11193390.pdf?src-supplier=Avnet; ComponentLink5URL: https://datasheet.ciiva.com/339/smf05c-d-339932.pdf?src-supplier=Digikey; ComponentLink5Description: https://datasheet.ciiva.com/339/smf05c-d-339932.pdf?src-supplier=Digikey; ComponentLink6URL: https://datasheet.ciiva.com/339/smf05c-d-339933.pdf?src-supplier=Digikey; ComponentLink6Description: https://datasheet.ciiva.com/339/smf05c-d-339933.pdf?src-supplier=Digikey; ComponentLink7URL: https://datasheet.ciiva.com/339/smf05c-d-339931.pdf?src-supplier=Digikey; ComponentLink7Description: https://datasheet.ciiva.com/339/smf05c-d-339931.pdf?src-supplier=Digikey; Supplier Part Number 1: SMF05CT1G
footprint SOT65P210X110-6N
pins: 1 K1, 2 A, 3 K3, 4 K4, 5 K5, 6 K6

## TVS DIODE 5VWM 14VC DFN1006-2
designator D?, comment D5V0L1B2LP4-7B
Single Channel 5 V Bi-Directional ESD Protection TVS Diode - X2-DFN1006-2; Manufacturer: Diodes; Direction: Bidirectional; Capacitance: 20pF; Max Surge Current: 6A; Number of Bidirectional Channels: 1; Reverse Standoff Voltage: 5V; Min Breakdown Voltage: 6V; Clamping Voltage: 14V; Peak Pulse Power: 84W; Power Line Protection: No; Breakdown Voltage: 7V; ESD Protection: Yes; Test Current: 1mA; Max Reverse Leakage Current: 100nA; Diode Type: ZENER; Supplier 1: Arrow Electronics; Manufacturer Part Number: D5V0L1B2LP4-7B; RoHS: Yes; Category: TVS Diodes; Stock 1: 9578; Pricing 1: 1=0.2175, 10=0.1409, 25=0.1239, 100=0.0592, 250=0.0569, 500=0.0563, 1000=0.0311, 3000=0.0308, 6000=0.0282 (USD); Mount: Surface Mount; Case/Package: DFN EP; Number of Pins: 2; Contact Plating: Gold; Case Code (Imperial): 0402; Case Code (Metric): 1006; Min Operating Temperature: -65°C; Max Operating Temperature: 150°C; Package Quantity: 10000; Packaging: Tape and Reel; Polarity: Bidirectional; Termination: SMD/SMT; Working Voltage: 5V; Max Power Dissipation: 84W; Leakage Current: 100nA; Peak Pulse Current: 6A; Series: -; Length: 1mm; Width: 0.675mm; Height: 0.35mm; Depth: 0.6mm; Radiation Hardening: No; Lead Free: Lead Free; Reach SVHC Compliant: Yes; RoHS Compliant: Yes; ComponentLink1URL: https://datasheet.ciiva.com/333/d5v0l1b2lp4-333157.pdf?src-supplier=Digikey; ComponentLink1Description: https://datasheet.ciiva.com/333/d5v0l1b2lp4-333157.pdf?src-supplier=Digikey; ComponentLink2URL: https://datasheet.ciiva.com/25624/0900766b8115c33e-25624674.pdf?src-supplier=Rs; ComponentLink2Description: https://datasheet.ciiva.com/25624/0900766b8115c33e-25624674.pdf?src-supplier=Rs; ComponentLink3URL: https://datasheet.ciiva.com/13895/d5v0l1b2lp4-13895751.pdf?src-supplier=Mouser; ComponentLink3Description: https://datasheet.ciiva.com/13895/d5v0l1b2lp4-13895751.pdf?src-supplier=Mouser; ComponentLink4URL: https://datasheet.ciiva.com/15186/getdatasheetpartid-662061-15186699.pdf?src-supplier=Verical; ComponentLink4Description: https://datasheet.ciiva.com/15186/getdatasheetpartid-662061-15186699.pdf?src-supplier=Verical; ComponentLink5URL: https://datasheet.ciiva.com/11193/d5v0l1b2lp4-11193819.pdf?src-supplier=Avnet; ComponentLink5Description: https://datasheet.ciiva.com/11193/d5v0l1b2lp4-11193819.pdf?src-supplier=Avnet; Supplier Part Number 1: D5V0L1B2LP4-7B
footprint DIODFN100X60X40-2N
pins: 1, 2

## USB3.0X2
designator U?
pins: 1 VCC, 2 D-, 3 D+, 4 GND8, 5 RX-, 6 RX+, 7 GND2, 8 SSTX-, 9 SSTX+, 10 VCC1, 11 D1-, 12 D1+, 13 GND4, 14 RX1-, 15 RX1+, 16 GND5, 17 SSTX1-, 18 SSTX1+, 19 GND1, 20 GND3, 21 GND6, 22 GND7

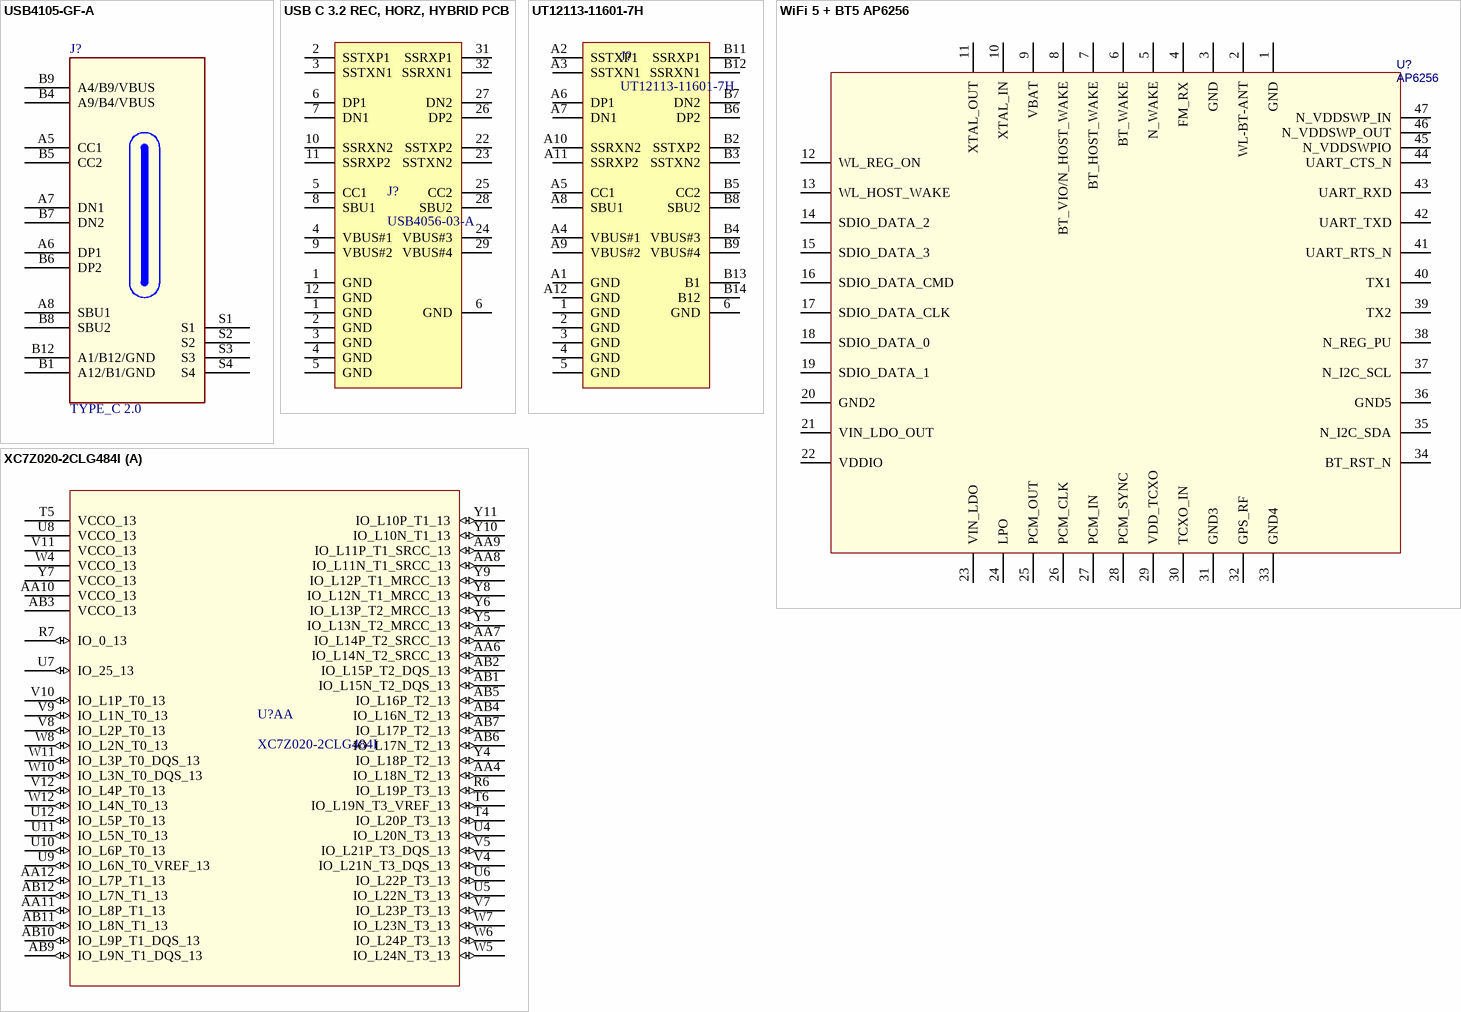
[diagram p21: symbols USB4105-GF-A to XC7Z020-2CLG484I]

## USB4105-GF-A
designator J?, comment TYPE_C 2.0
Conn USB 2.0 Type C RCP 24 POS 0.3mm/0.5mm Solder RA SMD 24 Terminal 1 Port T/R; Manufacturer: Global Connector Technology; Manufacturer Part Number: USB4105-GF-A; USB Standard: 6108USBStandard; Number of Contacts: 16NUMBER; Voltage Rating: 20V; Gender: Receptacle; Mating Cycles: 10000; Shielding: Shielded; Number of Ports: 1; Supplier 1: Newark; RoHS: No; Category: USB Connectors; Stock 1: 1576; Pricing 1: 1=0.811, 10=0.737, 25=0.695, 50=0.666, 100=0.638, 250=0.581, 500=0.539 (USD); Mount: Surface Mount,Through Hole,Horizontal; Contact Material: 153,157ConductorMaterial; Contact Plating: Gold; Insulation Color: Black; Min Operating Temperature: -40°C; Max Operating Temperature: 85°C; Connector Type: USB; Series: USB4105; Termination: Solder; Height: 3.46mm; Flammability Rating: UL94 V-0; ComponentLink1URL: https://gct.co/files/drawings/usb4105.pdf?src-supplier=Digi-Key; ComponentLink1Description: https://gct.co/files/drawings/usb4105.pdf?src-supplier=Digi-Key; ComponentLink2URL: https://datasheet.octopart.com/USB4105-GF-A-GCT-datasheet-166929323.pdf?src-supplier=TME; ComponentLink2Description: https://datasheet.octopart.com/USB4105-GF-A-GCT-datasheet-166929323.pdf?src-supplier=TME; Supplier Part Number 1: 86AH2021
footprint GCT_USB4105-GF-A
pins: A5 CC1, A6 DP1, A7 DN1, A8 SBU1, B1 A12/B1/GND, B4 A9/B4/VBUS, B5 CC2, B6 DP2, B7 DN2, B8 SBU2, B9 A4/B9/VBUS, B12 A1/B12/GND, S1, S2, S3, S4

## USB C 3.2 REC, HORZ, HYBRID PCB
designator J?, comment USB4056-03-A
24 Position Hybrid Top Mount USB Type C 3.2 Gen Receptacle; Manufacturer: Global Connector Technology; Number of Contacts: 24NUMBER; Voltage Rating: 20V; Supplier 1: Future Electronics; Manufacturer Part Number: USB4056-03-A; RoHS: No; Category: Connectors; Stock 1: 1000; Pricing 1: 1000=0.56, 2000=0.545, 3000=0.54, 4000=0.535, 5000=0.52 (USD); Contact Material: 153,157ConductorMaterial; Min Operating Temperature: -25°C; Max Operating Temperature: 85°C; Height: 3.51mm; ComponentLink1URL: https://datasheet.octopart.com/USB4056-03-A-Global-Connector-Technology-datasheet-169978561.pdf?src-supplier=Future+Electronics; ComponentLink1Description: https://datasheet.octopart.com/USB4056-03-A-Global-Connector-Technology-datasheet-169978561.pdf?src-supplier=Future+Electronics; Supplier Part Number 1: 2158115
footprint USB4056-03-A
pins: 1 GND, 1 GND, 2 SSTXP1, 2 GND, 3 SSTXN1, 3 GND, 4 VBUS#1, 4 GND, 5 CC1, 5 GND, 6 DP1, 6 GND, 7 DN1, 8 SBU1, 9 VBUS#2, 10 SSRXN2, 11 SSRXP2, 12 GND, 22 SSTXP2, 23 SSTXN2, 24 VBUS#3, 25 CC2, 26 DP2, 27 DN2, 28 SBU2, 29 VBUS#4, 31 SSRXP1, 32 SSRXN1

## UT12113-11601-7H
designator J?
pins: 1 GND, 2 GND, 3 GND, 4 GND, 5 GND, 6 GND, A1 GND, A2 SSTXP1, A3 SSTXN1, A4 VBUS#1, A5 CC1, A6 DP1, A7 DN1, A8 SBU1, A9 VBUS#2, A10 SSRXN2, A11 SSRXP2, A12 GND, B2 SSTXP2, B3 SSTXN2, B4 VBUS#3, B5 CC2, B6 DP2, B7 DN2, B8 SBU2, B9 VBUS#4, B11 SSRXP1, B12 SSRXN1, B13 B1, B14 B12

## WiFi 5 + BT5 AP6256
designator U?, comment AP6256
WiFi 5 + BT5 AP6256; Contributor: ZAINX; spicePre: U; spiceSymbolName: AW859A
footprint AP6256
pins: 1 GND, 2 WL-BT-ANT, 3 GND, 4 FM_RX, 5 N_WAKE, 6 BT_WAKE, 7 BT_HOST_WAKE, 8 BT_VIO/N_HOST_WAKE, 9 VBAT, 10 XTAL_IN, 11 XTAL_OUT, 12 WL_REG_ON, 13 WL_HOST_WAKE, 14 SDIO_DATA_2, 15 SDIO_DATA_3, 16 SDIO_DATA_CMD, 17 SDIO_DATA_CLK, 18 SDIO_DATA_0, 19 SDIO_DATA_1, 20 GND2, 21 VIN_LDO_OUT, 22 VDDIO, 23 VIN_LDO, 24 LPO, 25 PCM_OUT, 26 PCM_CLK, 27 PCM_IN, 28 PCM_SYNC, 29 VDD_TCXO, 30 TCXO_IN, 31 GND3, 32 GPS_RF, 33 GND4, 34 BT_RST_N, 35 N_I2C_SDA, 36 GND5, 37 N_I2C_SCL, 38 N_REG_PU, 39 TX2, 40 TX1, 41 UART_RTS_N, 42 UART_TXD, 43 UART_RXD, 44 UART_CTS_N, 45 N_VDDSWPIO, 46 N_VDDSWP_OUT, 47 N_VDDSWP_IN

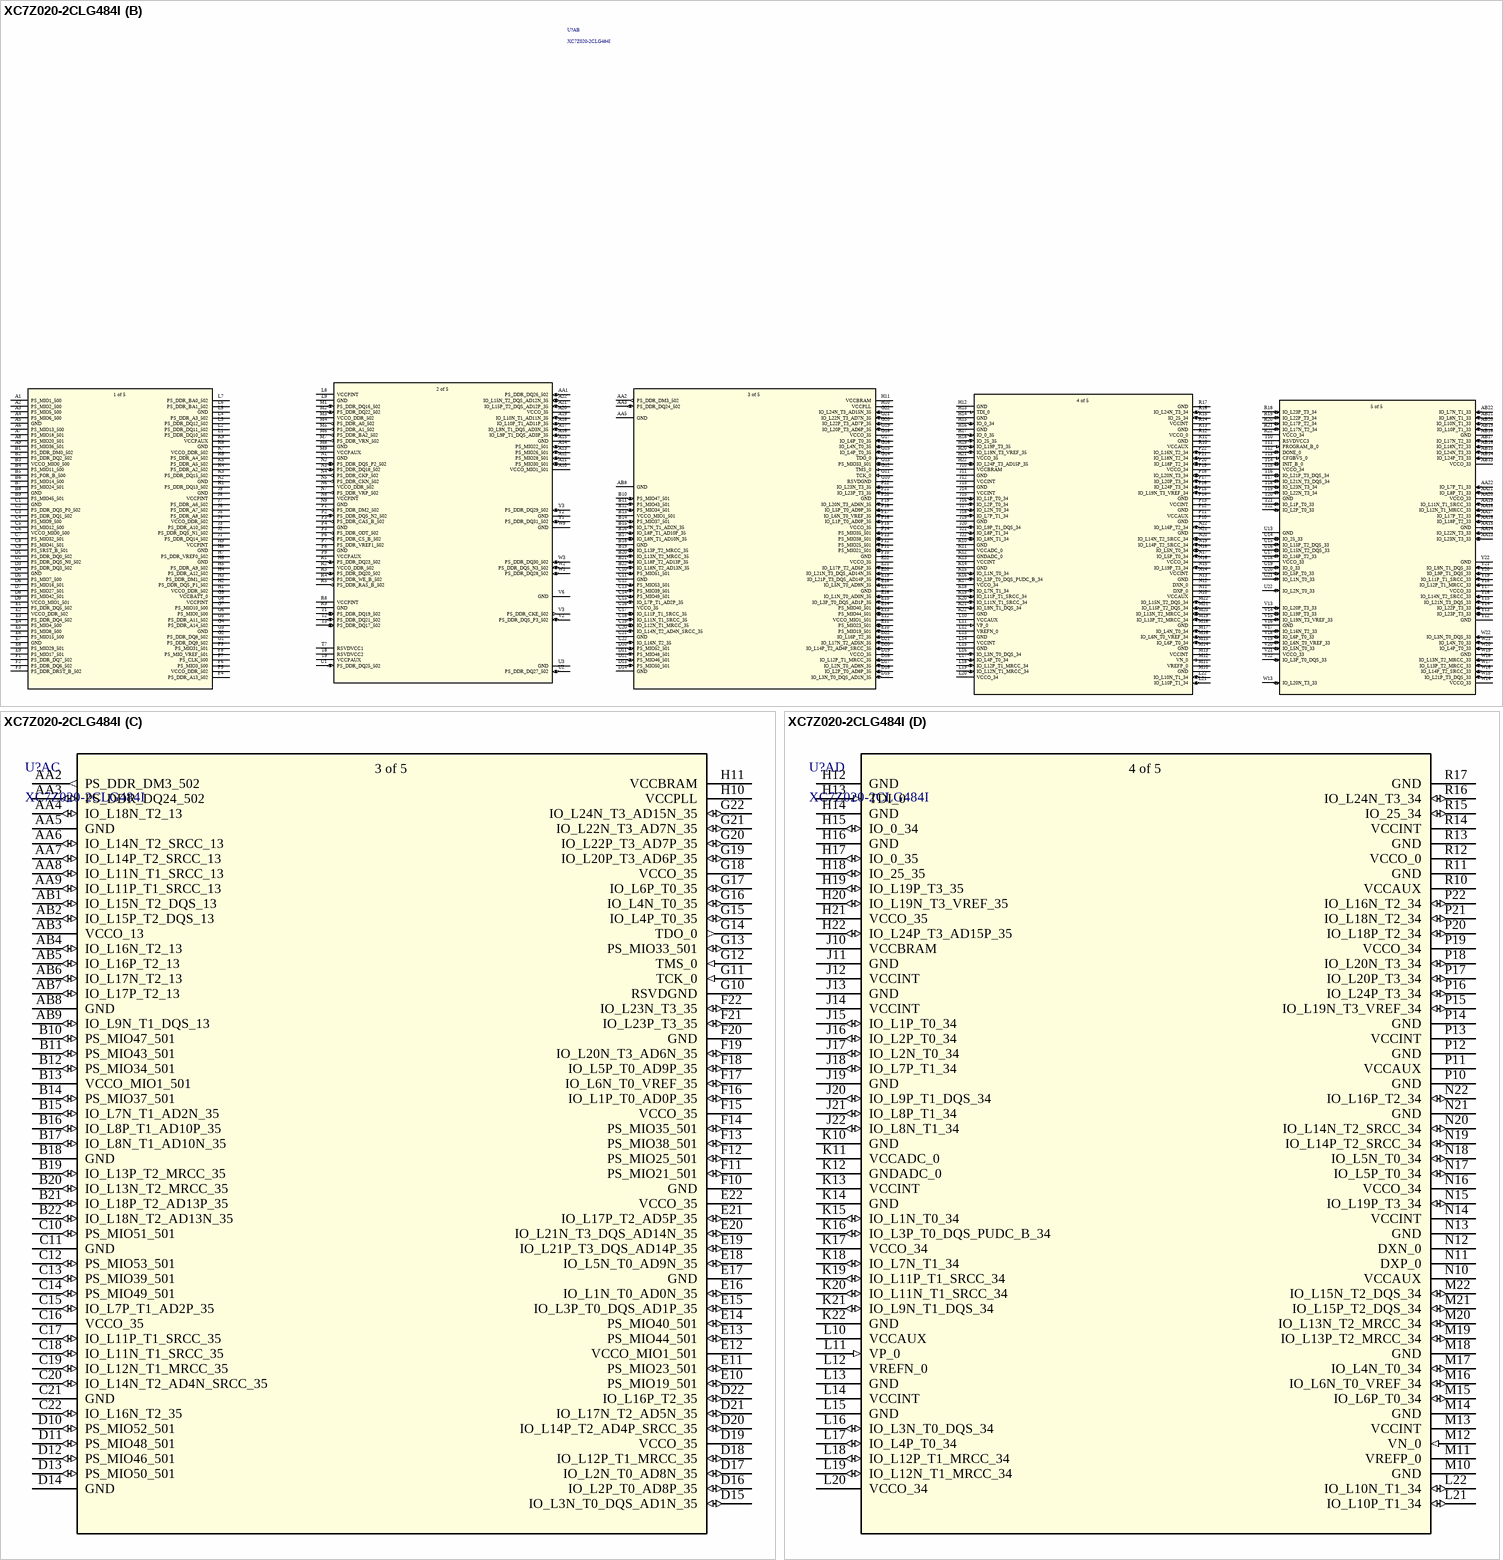
[diagram p22: symbol XC7Z020-2CLG484I]

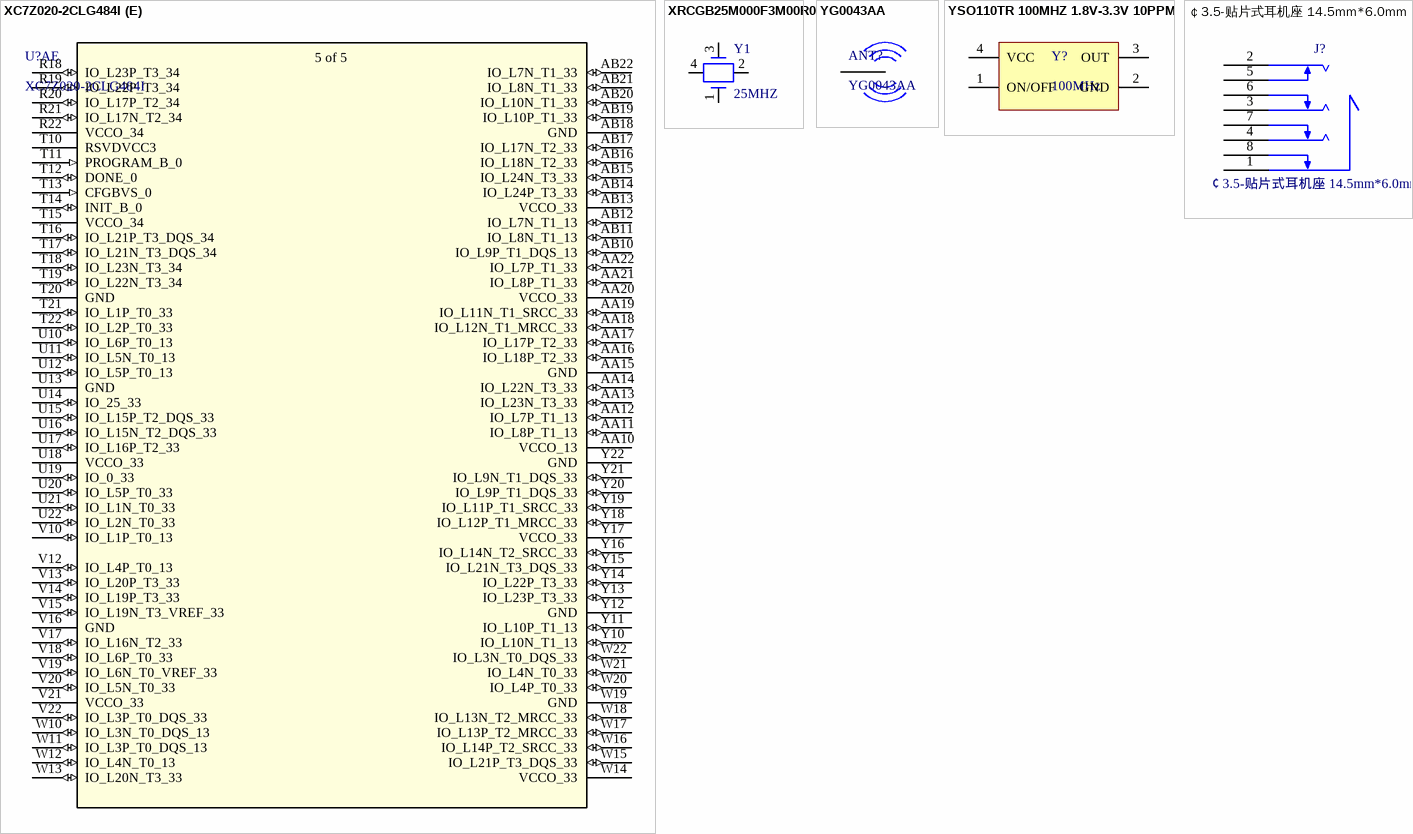
[diagram p23: symbols XC7Z020-2CLG484I to ￠3.5-贴片式耳机座 14.5mm*6.0mm]